# Altium schematic symbol library Header254Female_BG300-04-X-X-A_REVC.SchLib: 1 symbol
Pins are listed as number, name and electrical type; pins without a type are passive.

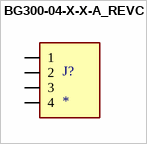
[diagram p0: symbol BG300-04-X-X-A_REVC]

## BG300-04-X-X-A_REVC
designator J?
4 Position Receptacle Connector 0.100 (2.54mm) Surface Mount, Right Angle Gold; MF: Global Connector Technology; MP: BG300-04-A-L-A; SnapEDA_Link: https://www.snapeda.com/parts/BG300-04-A-L-A/Global+Connector+Technology/view-part/?ref=snap; Package: None; Value: *; Check_prices: https://www.snapeda.com/parts/BG300-04-A-L-A/Global+Connector+Technology/view-part/?ref=eda
footprint GCT_BG300-04-X-X-A_REVC
pins: 1, 2, 3, 4